# Altium footprint library INF-PG-TO220-3-1_A_V.PcbLib: 1 footprints
Each footprint in its own frame and in the unit in brackets; x right, y up, seen from the top. Pads: shape width x height; smd on the part's side, far side on the other; paste and mask are expansions set on the pad; w line width, h text height; cw(c..) or ccw(c..) is an arc to the next point about the centre after c.
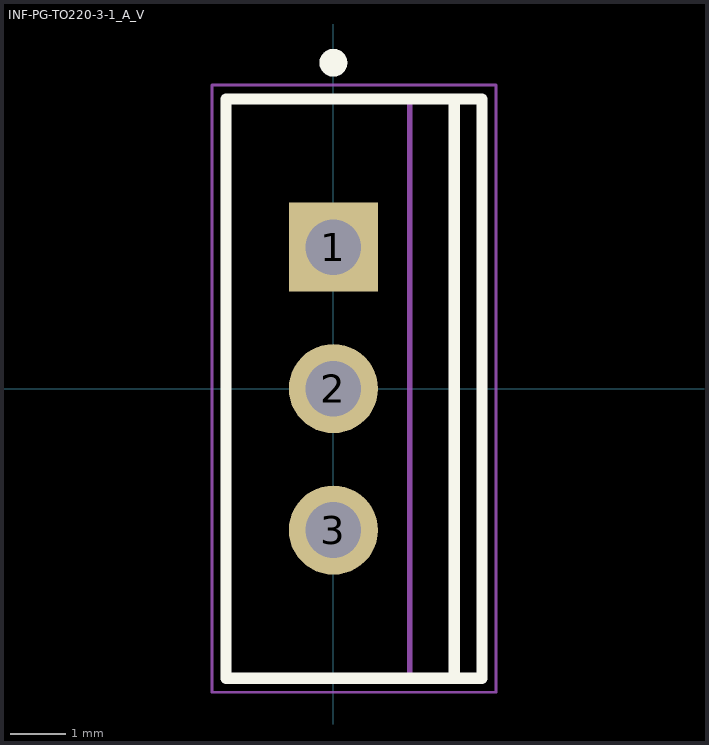
[diagram p0: the footprint, top view; thin cyan lines are the x and y axes]

## INF-PG-TO220-3-1_A_V [mm] "FM, 3-Leads, Body 10.03x8.98mm, Pitch 2.54mm"
height 20.75
pads (3):
  rect 1.6x1.6 hole 1: 1(0,2.54)
  round 1.6 hole 1: 2(0,0) 3(0,-2.54)
Top Overlay:
  circle w0.25: c0,5.85 r0.125
  lines w0.2: 2.17,-5.2 2.17,5.2 ; -1.93,-5.2 -1.93,5.2 2.67,5.2 2.67,-5.2 -1.93,-5.2
Mechanical 13:
  lines w0.1: 1.37,-5.2 1.37,5.2 ; -1.93,-5.2 2.67,-5.2 2.67,5.2 -1.93,5.2 -1.93,-5.2
Mechanical 15:
  lines w0.05: -2.18,-5.45 2.92,-5.45 2.92,5.45 -2.18,5.45 -2.18,-5.45
  lines w0.1: -0.5,0 0.5,0 ; 0,-0.5 0,0.5
3D body: height 20.75, standoff 19.83, extent 1.37,-5.025 2.67,5.025
3D body: height 18.32, standoff 17.95, extent 1.37,-5.025 2.67,-1.875
3D body: height 18.32, standoff 17.95, extent 1.37,1.875 2.67,5.025
3D body: height 17.95, standoff 17.58, extent 1.37,-5.025 2.67,-1.875
3D body: height 17.95, standoff 17.58, extent 1.37,1.875 2.67,5.025
3D body: height 18.67, standoff 18.32, extent 1.37,-5.025 2.67,-1.839
3D body: height 18.67, standoff 18.32, extent 1.37,1.839 2.67,5.025
3D body: height 17.59, standoff 17.23, extent 1.37,-5.025 2.67,-1.839
3D body: height 17.59, standoff 17.23, extent 1.37,1.839 2.67,5.025
3D body: height 19, standoff 18.67, extent 1.37,-5.025 2.67,-1.732
3D body: height 19, standoff 18.67, extent 1.37,1.732 2.67,5.025
3D body: height 17.24, standoff 16.91, extent 1.37,-5.025 2.67,-1.732
3D body: height 17.24, standoff 16.91, extent 1.37,1.732 2.67,5.025
3D body: height 19.28, standoff 18.99, extent 1.37,-5.025 2.67,-1.559
3D body: height 19.28, standoff 18.99, extent 1.37,1.559 2.67,5.025
3D body: height 16.91, standoff 16.62, extent 1.37,-5.025 2.67,-1.559
3D body: height 16.91, standoff 16.62, extent 1.37,1.559 2.67,5.025
3D body: height 19.51, standoff 19.28, extent 1.37,-5.025 2.67,-1.326
3D body: height 19.51, standoff 19.28, extent 1.37,1.326 2.67,5.025
3D body: height 16.63, standoff 16.39, extent 1.37,-5.025 2.67,-1.326
3D body: height 16.63, standoff 16.39, extent 1.37,1.326 2.67,5.025
3D body: height 19.69, standoff 19.51, extent 1.37,-5.025 2.67,-1.042
3D body: height 19.69, standoff 19.51, extent 1.37,1.042 2.67,5.025
3D body: height 16.4, standoff 16.22, extent 1.37,-5.025 2.67,-1.042
3D body: height 16.4, standoff 16.22, extent 1.37,1.042 2.67,5.025
3D body: height 19.79, standoff 19.68, extent 1.37,-5.025 2.67,-0.718
3D body: height 19.79, standoff 19.68, extent 1.37,0.718 2.67,5.025
3D body: height 16.22, standoff 16.11, extent 1.37,-5.025 2.67,-0.718
3D body: height 16.22, standoff 16.11, extent 1.37,0.718 2.67,5.025
3D body: height 19.83, standoff 19.79, extent 1.37,-5.025 2.67,-0.366
3D body: height 19.83, standoff 19.79, extent 1.37,0.366 2.67,5.025
3D body: height 16.12, standoff 16.08, extent 1.37,-5.025 2.67,-0.366
3D body: height 16.12, standoff 16.08, extent 1.37,0.366 2.67,5.025
3D body: height 16.08, standoff 14.35, extent 1.37,-5.025 2.67,5.025
3D body: height 14.35, standoff 4.8, extent -1.93,-5.2 2.67,5.2
3D body: height 0, standoff -1.6, extent -0.235,-2.92 0.235,-2.16
3D body: height 4.8, standoff 0, extent -0.235,-3.13 0.235,-1.95
3D body: height 0, standoff -1.6, extent -0.235,-0.38 0.235,0.38
3D body: height 4.8, standoff 0, extent -0.235,-0.59 0.235,0.59
3D body: height 0, standoff -1.6, extent -0.235,2.16 0.235,2.92
3D body: height 4.8, standoff 0, extent -0.235,1.95 0.235,3.13